# Altium integrated library on.IntLib: 1 symbol
Pins are listed as number, name and electrical type; pins without a type are passive.

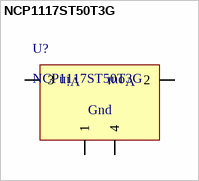
[diagram p0: symbol NCP1117ST50T3G]

## NCP1117ST50T3G
designator U?
LDO Voltage Regulators 5.0V 1A Positive
footprint LM340MPX-5.0/NOPB (JEDEC TO-261 Variation AA)
pins: 1, 2, 3, 4
text: Vin; Vout; Gnd